# EAGLE library part AP7001 (library avr)
AP7001 MCU
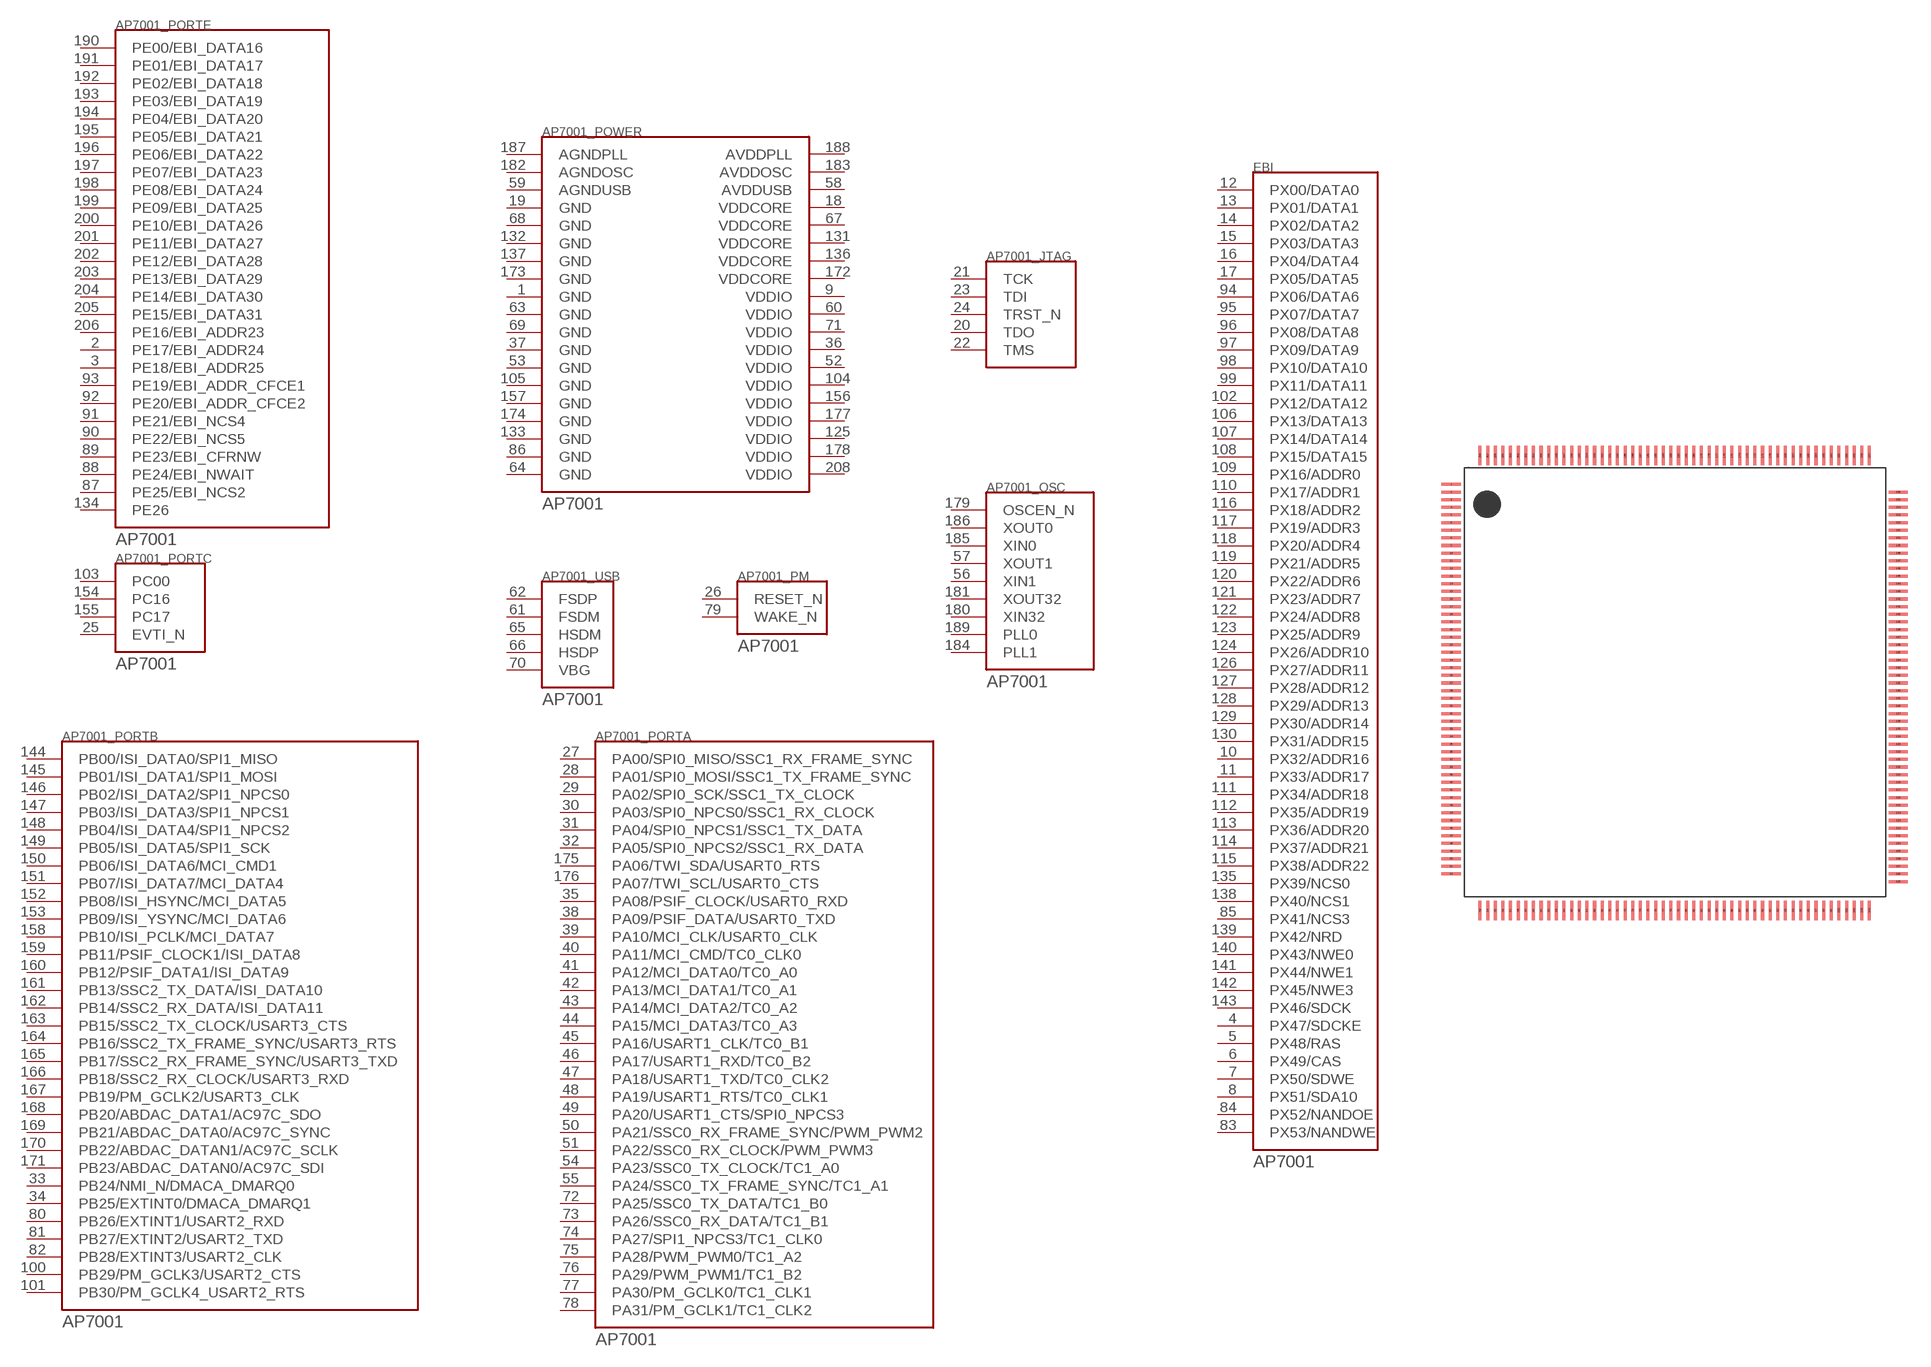
[diagram p81: symbol with the pads of QFP208; footprint QFP208]

Designator prefix IC; gates G$1=AP7001_POWER G$2=AP7001_USB G$3=AP7001_PORTE G$4=AP7001_PORTC G$5=AP7001_PORTB G$6=AP7001_PORTA G$7=AP7001_PM G$8=AP7001_OSC G$9=AP7001_JTAG G$10=AP7001_EBI

## AP7001  [QFP208]
1  G$1:GND
2  G$3:PE17/EBI_ADDR24
3  G$3:PE18/EBI_ADDR25
4  G$10:PX47/SDCKE
5  G$10:PX48/RAS
6  G$10:PX49/CAS
7  G$10:PX50/SDWE
8  G$10:PX51/SDA10
9  G$1:VDDIO
10  G$10:PX32/ADDR16
11  G$10:PX33/ADDR17
12  G$10:PX00/DATA0
13  G$10:PX01/DATA1
14  G$10:PX02/DATA2
15  G$10:PX03/DATA3
16  G$10:PX04/DATA4
17  G$10:PX05/DATA5
18  G$1:VDDCORE
19  G$1:GND
20  G$9:TDO
21  G$9:TCK
22  G$9:TMS
23  G$9:TDI
24  G$9:TRST_N
25  G$4:EVTI_N
26  G$7:RESET_N
27  G$6:PA00/SPI0_MISO/SSC1_RX_FRAME_SYNC
28  G$6:PA01/SPI0_MOSI/SSC1_TX_FRAME_SYNC
29  G$6:PA02/SPI0_SCK/SSC1_TX_CLOCK
30  G$6:PA03/SPI0_NPCS0/SSC1_RX_CLOCK
31  G$6:PA04/SPI0_NPCS1/SSC1_TX_DATA
32  G$6:PA05/SPI0_NPCS2/SSC1_RX_DATA
33  G$5:PB24/NMI_N/DMACA_DMARQ0
34  G$5:PB25/EXTINT0/DMACA_DMARQ1
35  G$6:PA08/PSIF_CLOCK/USART0_RXD
36  G$1:VDDIO
37  G$1:GND
38  G$6:PA09/PSIF_DATA/USART0_TXD
39  G$6:PA10/MCI_CLK/USART0_CLK
40  G$6:PA11/MCI_CMD/TC0_CLK0
41  G$6:PA12/MCI_DATA0/TC0_A0
42  G$6:PA13/MCI_DATA1/TC0_A1
43  G$6:PA14/MCI_DATA2/TC0_A2
44  G$6:PA15/MCI_DATA3/TC0_A3
45  G$6:PA16/USART1_CLK/TC0_B1
46  G$6:PA17/USART1_RXD/TC0_B2
47  G$6:PA18/USART1_TXD/TC0_CLK2
48  G$6:PA19/USART1_RTS/TC0_CLK1
49  G$6:PA20/USART1_CTS/SPI0_NPCS3
50  G$6:PA21/SSC0_RX_FRAME_SYNC/PWM_PWM2
51  G$6:PA22/SSC0_RX_CLOCK/PWM_PWM3
52  G$1:VDDIO
53  G$1:GND
54  G$6:PA23/SSC0_TX_CLOCK/TC1_A0
55  G$6:PA24/SSC0_TX_FRAME_SYNC/TC1_A1
56  G$8:XIN1
57  G$8:XOUT1
58  G$1:AVDDUSB
59  G$1:AGNDUSB
60  G$1:VDDIO
61  G$2:FSDM
62  G$2:FSDP
63  G$1:GND
64  G$1:GND
65  G$2:HSDM
66  G$2:HSDP
67  G$1:VDDCORE
68  G$1:GND
69  G$1:GND
70  G$2:VBG
71  G$1:VDDIO
72  G$6:PA25/SSC0_TX_DATA/TC1_B0
73  G$6:PA26/SSC0_RX_DATA/TC1_B1
74  G$6:PA27/SPI1_NPCS3/TC1_CLK0
75  G$6:PA28/PWM_PWM0/TC1_A2
76  G$6:PA29/PWM_PWM1/TC1_B2
77  G$6:PA30/PM_GCLK0/TC1_CLK1
78  G$6:PA31/PM_GCLK1/TC1_CLK2
79  G$7:WAKE_N
80  G$5:PB26/EXTINT1/USART2_RXD
81  G$5:PB27/EXTINT2/USART2_TXD
82  G$5:PB28/EXTINT3/USART2_CLK
83  G$10:PX53/NANDWE
84  G$10:PX52/NANDOE
85  G$10:PX41/NCS3
86  G$1:GND
87  G$3:PE25/EBI_NCS2
88  G$3:PE24/EBI_NWAIT
89  G$3:PE23/EBI_CFRNW
90  G$3:PE22/EBI_NCS5
91  G$3:PE21/EBI_NCS4
92  G$3:PE20/EBI_ADDR_CFCE2
93  G$3:PE19/EBI_ADDR_CFCE1
94  G$10:PX06/DATA6
95  G$10:PX07/DATA7
96  G$10:PX08/DATA8
97  G$10:PX09/DATA9
98  G$10:PX10/DATA10
99  G$10:PX11/DATA11
100  G$5:PB29/PM_GCLK3/USART2_CTS
101  G$5:PB30/PM_GCLK4_USART2_RTS
102  G$10:PX12/DATA12
103  G$4:PC00
104  G$1:VDDIO
105  G$1:GND
106  G$10:PX13/DATA13
107  G$10:PX14/DATA14
108  G$10:PX15/DATA15
109  G$10:PX16/ADDR0
110  G$10:PX17/ADDR1
111  G$10:PX34/ADDR18
112  G$10:PX35/ADDR19
113  G$10:PX36/ADDR20
114  G$10:PX37/ADDR21
115  G$10:PX38/ADDR22
116  G$10:PX18/ADDR2
117  G$10:PX19/ADDR3
118  G$10:PX20/ADDR4
119  G$10:PX21/ADDR5
120  G$10:PX22/ADDR6
121  G$10:PX23/ADDR7
122  G$10:PX24/ADDR8
123  G$10:PX25/ADDR9
124  G$10:PX26/ADDR10
125  G$1:VDDIO
126  G$10:PX27/ADDR11
127  G$10:PX28/ADDR12
128  G$10:PX29/ADDR13
129  G$10:PX30/ADDR14
130  G$10:PX31/ADDR15
131  G$1:VDDCORE
132  G$1:GND
133  G$1:GND
134  G$3:PE26
135  G$10:PX39/NCS0
136  G$1:VDDCORE
137  G$1:GND
138  G$10:PX40/NCS1
139  G$10:PX42/NRD
140  G$10:PX43/NWE0
141  G$10:PX44/NWE1
142  G$10:PX45/NWE3
143  G$10:PX46/SDCK
144  G$5:PB00/ISI_DATA0/SPI1_MISO
145  G$5:PB01/ISI_DATA1/SPI1_MOSI
146  G$5:PB02/ISI_DATA2/SPI1_NPCS0
147  G$5:PB03/ISI_DATA3/SPI1_NPCS1
148  G$5:PB04/ISI_DATA4/SPI1_NPCS2
149  G$5:PB05/ISI_DATA5/SPI1_SCK
150  G$5:PB06/ISI_DATA6/MCI_CMD1
151  G$5:PB07/ISI_DATA7/MCI_DATA4
152  G$5:PB08/ISI_HSYNC/MCI_DATA5
153  G$5:PB09/ISI_YSYNC/MCI_DATA6
154  G$4:PC16
155  G$4:PC17
156  G$1:VDDIO
157  G$1:GND
158  G$5:PB10/ISI_PCLK/MCI_DATA7
159  G$5:PB11/PSIF_CLOCK1/ISI_DATA8
160  G$5:PB12/PSIF_DATA1/ISI_DATA9
161  G$5:PB13/SSC2_TX_DATA/ISI_DATA10
162  G$5:PB14/SSC2_RX_DATA/ISI_DATA11
163  G$5:PB15/SSC2_TX_CLOCK/USART3_CTS
164  G$5:PB16/SSC2_TX_FRAME_SYNC/USART3_RTS
165  G$5:PB17/SSC2_RX_FRAME_SYNC/USART3_TXD
166  G$5:PB18/SSC2_RX_CLOCK/USART3_RXD
167  G$5:PB19/PM_GCLK2/USART3_CLK
168  G$5:PB20/ABDAC_DATA1/AC97C_SDO
169  G$5:PB21/ABDAC_DATA0/AC97C_SYNC
170  G$5:PB22/ABDAC_DATAN1/AC97C_SCLK
171  G$5:PB23/ABDAC_DATAN0/AC97C_SDI
172  G$1:VDDCORE
173  G$1:GND
174  G$1:GND
175  G$6:PA06/TWI_SDA/USART0_RTS
176  G$6:PA07/TWI_SCL/USART0_CTS
177  G$1:VDDIO
178  G$1:VDDIO
179  G$8:OSCEN_N
180  G$8:XIN32
181  G$8:XOUT32
182  G$1:AGNDOSC
183  G$1:AVDDOSC
184  G$8:PLL1
185  G$8:XIN0
186  G$8:XOUT0
187  G$1:AGNDPLL
188  G$1:AVDDPLL
189  G$8:PLL0
190  G$3:PE00/EBI_DATA16
191  G$3:PE01/EBI_DATA17
192  G$3:PE02/EBI_DATA18
193  G$3:PE03/EBI_DATA19
194  G$3:PE04/EBI_DATA20
195  G$3:PE05/EBI_DATA21
196  G$3:PE06/EBI_DATA22
197  G$3:PE07/EBI_DATA23
198  G$3:PE08/EBI_DATA24
199  G$3:PE09/EBI_DATA25
200  G$3:PE10/EBI_DATA26
201  G$3:PE11/EBI_DATA27
202  G$3:PE12/EBI_DATA28
203  G$3:PE13/EBI_DATA29
204  G$3:PE14/EBI_DATA30
205  G$3:PE15/EBI_DATA31
206  G$3:PE16/EBI_ADDR23
208  G$1:VDDIO

## Footprint QFP208 (pad centres in mm)
smd 1.27 x 0.2: 1 -14.71,12.81; 2 -14.71,12.31; 3 -14.71,11.81; 4 -14.71,11.31; 5 -14.71,10.81; 6 -14.71,10.31; 7 -14.71,9.81; 8 -14.71,9.31; 9 -14.71,8.81; 10 -14.71,8.31; 11 -14.71,7.81; 12 -14.71,7.31; 13 -14.71,6.81; 14 -14.71,6.31; 15 -14.71,5.81; 16 -14.71,5.31; 17 -14.71,4.81; 18 -14.71,4.31; 19 -14.71,3.81; 20 -14.71,3.31; 21 -14.71,2.81; 22 -14.71,2.31; 23 -14.71,1.81; 24 -14.71,1.31; 25 -14.71,0.81; 26 -14.71,0.31; 27 -14.71,-0.19; 28 -14.71,-0.69; 29 -14.71,-1.19; 30 -14.71,-1.69; 31 -14.71,-2.19; 32 -14.71,-2.69; 33 -14.71,-3.19; 34 -14.71,-3.69; 35 -14.71,-4.19; 36 -14.71,-4.69; 37 -14.71,-5.19; 38 -14.71,-5.69; 39 -14.71,-6.19; 40 -14.71,-6.69; 41 -14.71,-7.19; 42 -14.71,-7.69; 43 -14.71,-8.19; 44 -14.71,-8.69; 45 -14.71,-9.19; 46 -14.71,-9.69; 47 -14.71,-10.19; 48 -14.71,-10.69; 49 -14.71,-11.19; 50 -14.71,-11.69; 51 -14.71,-12.19; 52 -14.71,-12.69; 105 14.56,-13.19; 106 14.56,-12.69; 107 14.56,-12.19; 108 14.56,-11.69; 109 14.56,-11.19; 110 14.56,-10.69; 111 14.56,-10.19; 112 14.56,-9.69; 113 14.56,-9.19; 114 14.56,-8.69; 115 14.56,-8.19; 116 14.56,-7.69; 117 14.56,-7.19; 118 14.56,-6.69; 119 14.56,-6.19; 120 14.56,-5.69; 121 14.56,-5.19; 122 14.56,-4.69; 123 14.56,-4.19; 124 14.56,-3.69; 125 14.56,-3.19; 126 14.56,-2.69; 127 14.56,-2.19; 128 14.56,-1.69; 129 14.56,-1.19; 130 14.56,-0.69; 131 14.56,-0.19; 132 14.56,0.31; 133 14.56,0.81; 134 14.56,1.31; 135 14.56,1.81; 136 14.56,2.31; 137 14.56,2.81; 138 14.56,3.31; 139 14.56,3.81; 140 14.56,4.31; 141 14.56,4.81; 142 14.56,5.31; 143 14.56,5.81; 144 14.56,6.31; 145 14.56,6.81; 146 14.56,7.31; 147 14.56,7.81; 148 14.56,8.31; 149 14.56,8.81; 150 14.56,9.31; 151 14.56,9.81; 152 14.56,10.31; 153 14.56,10.81; 154 14.56,11.31; 155 14.56,11.81; 156 14.56,12.31
smd 0.2 x 1.27: 53 -12.825,-15.075; 54 -12.325,-15.075; 55 -11.825,-15.075; 56 -11.325,-15.075; 57 -10.825,-15.075; 58 -10.325,-15.075; 59 -9.825,-15.075; 60 -9.325,-15.075; 61 -8.825,-15.075; 62 -8.325,-15.075; 63 -7.825,-15.075; 64 -7.325,-15.075; 65 -6.825,-15.075; 66 -6.325,-15.075; 67 -5.825,-15.075; 68 -5.325,-15.075; 69 -4.825,-15.075; 70 -4.325,-15.075; 71 -3.825,-15.075; 72 -3.325,-15.075; 73 -2.825,-15.075; 74 -2.325,-15.075; 75 -1.825,-15.075; 76 -1.325,-15.075; 77 -0.825,-15.075; 78 -0.325,-15.075; 79 0.175,-15.075; 80 0.675,-15.075; 81 1.175,-15.075; 82 1.675,-15.075; 83 2.175,-15.075; 84 2.675,-15.075; 85 3.175,-15.075; 86 3.675,-15.075; 87 4.175,-15.075; 88 4.675,-15.075; 89 5.175,-15.075; 90 5.675,-15.075; 91 6.175,-15.075; 92 6.675,-15.075; 93 7.175,-15.075; 94 7.675,-15.075; 95 8.175,-15.075; 96 8.675,-15.075; 97 9.175,-15.075; 98 9.675,-15.075; 99 10.175,-15.075; 100 10.675,-15.075; 101 11.175,-15.075; 102 11.675,-15.075; 103 12.175,-15.075; 104 12.675,-15.075; 157 12.675,14.695; 158 12.175,14.695; 159 11.675,14.695; 160 11.175,14.695; 161 10.675,14.695; 162 10.175,14.695; 163 9.675,14.695; 164 9.175,14.695; 165 8.675,14.695; 166 8.175,14.695; 167 7.675,14.695; 168 7.175,14.695; 169 6.675,14.695; 170 6.175,14.695; 171 5.675,14.695; 172 5.175,14.695; 173 4.675,14.695; 174 4.175,14.695; 175 3.675,14.695; 176 3.175,14.695; 177 2.675,14.695; 178 2.175,14.695; 179 1.675,14.695; 180 1.175,14.695; 181 0.675,14.695; 182 0.175,14.695; 183 -0.325,14.695; 184 -0.825,14.695; 185 -1.325,14.695; 186 -1.825,14.695; 187 -2.325,14.695; 188 -2.825,14.695; 189 -3.325,14.695; 190 -3.825,14.695; 191 -4.325,14.695; 192 -4.825,14.695; 193 -5.325,14.695; 194 -5.825,14.695; 195 -6.325,14.695; 196 -6.825,14.695; 197 -7.325,14.695; 198 -7.825,14.695; 199 -8.325,14.695; 200 -8.825,14.695; 201 -9.325,14.695; 202 -9.825,14.695; 203 -10.325,14.695; 204 -10.825,14.695; 205 -11.325,14.695; 206 -11.825,14.695; 207 -12.325,14.695; 208 -12.825,14.695